# Altium schematic symbol library BAT54C.Schlib: 1 symbol
Pins are listed as number, name and electrical type; pins without a type are passive.

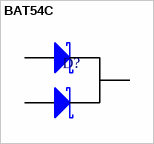
[diagram p0: symbol BAT54C]

## BAT54C
designator D?
BAT54 Series 0.8 V 200 mA 30 V Max Reverse Voltage Schottky Diode - SOT-23-3
pins: 1 A, 2 A, 3 K
1 alternate drawing of the same symbol